# Altium schematic symbol library PJ-325C.Schlib: 1 symbol
Pins are listed as number, name and electrical type; pins without a type are passive.

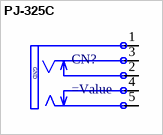
[diagram p0: symbol PJ-325C]

## PJ-325C
designator CN?
=Description
pins: 1 (power) "Tip", 2 "Tip Normal (Break Contact)", 3 "Sleeve (Ground)", 4 "Sleeve (Ground)", 5 "Tip Normal (Break Contact)"
text: GND